# Altium schematic symbol library PM-REG-LM1086-SOT4.SchLib: 1 symbol
Pins are listed as number, name and electrical type; pins without a type are passive.

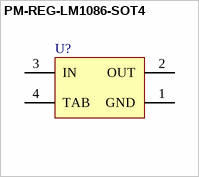
[diagram p0: symbol PM-REG-LM1086-SOT4]

## PM-REG-LM1086-SOT4
designator U?
pins: 1 GND (power), 2 OUT (power), 3 IN (power), 4 TAB (power)